# EAGLE library part PT61018PEL (library PT61018PEL)
BOURNS - PT61018PEL - TRANSFORMER, LAN, 1CT:1CT, 350UH, SMD Source: Datasheet <https://www.bourns.com/docs/Product-Datasheets/PT61018PEL.pdf>
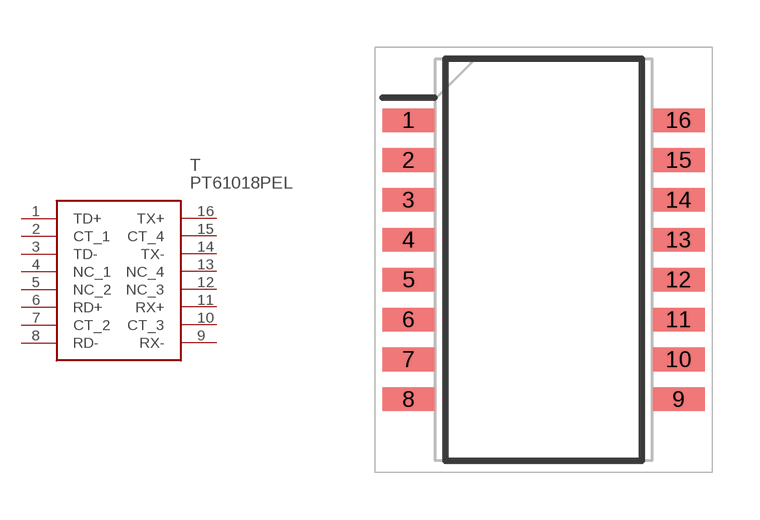
[diagram p0: symbol with the pads of SOIC127P930X565-16N; footprint SOIC127P930X565-16N]

Designator prefix T

## PT61018PEL (Description: BOURNS - PT61018PEL - TRANSFORMER, LAN, 1CT:1CT, 350UH, SMD; Height: 5.65mm; Manufacturer_Name: Bourns; Manufacturer_Part_Number: PT61018PEL; Mouser_Part_Number: 652-PT61018PEL; Mouser_Price-Stock: https://www.mouser.co.uk/ProductDetail/Bourns/PT61018PEL?qs=G1LhLIAbs1x4VqIQtFg%252BEw%3D%3D)  [SOIC127P930X565-16N]
1  TD+
2  CT_1
3  TD-
4  NC_1
5  NC_2
6  RD+
7  CT_2
8  RD-
9  RX-
10  CT_3
11  RX+
12  NC_3
13  NC_4
14  TX-
15  CT_4
16  TX+

## Footprint SOIC127P930X565-16N (pad centres in mm)
PT61018PEL
smd 1.65 x 0.75: 1 -4.3,4.445; 2 -4.3,3.175; 3 -4.3,1.905; 4 -4.3,0.635; 5 -4.3,-0.635; 6 -4.3,-1.905; 7 -4.3,-3.175; 8 -4.3,-4.445; 9 4.3,-4.445; 10 4.3,-3.175; 11 4.3,-1.905; 12 4.3,-0.635; 13 4.3,0.635; 14 4.3,1.905; 15 4.3,3.175; 16 4.3,4.445